# Altium footprint library CRCW080510K0FKEA.PcbLib: 3 footprints
Each footprint in its own frame and in the unit in brackets; x right, y up, seen from the top. Pads: shape width x height; smd on the part's side, far side on the other; paste and mask are expansions set on the pad; w line width, h text height; cw(c..) or ccw(c..) is an arc to the next point about the centre after c.
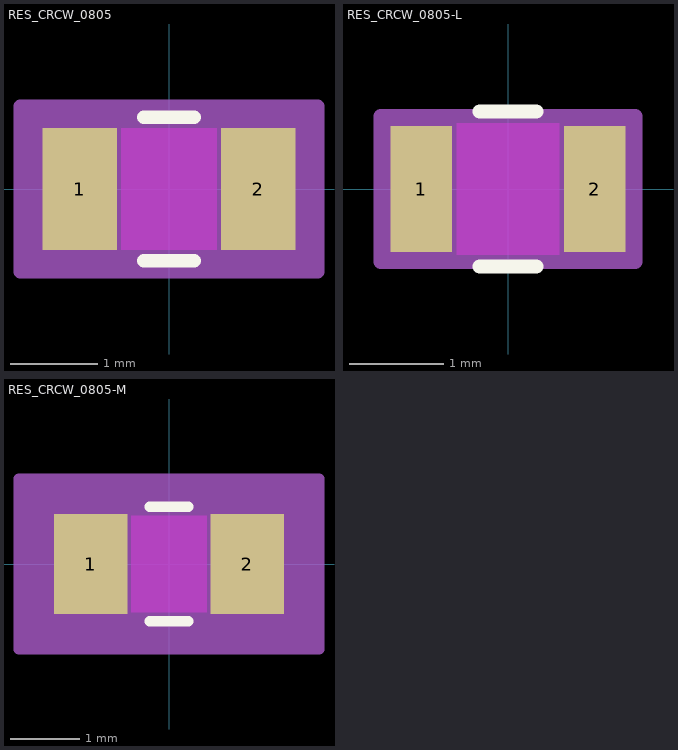
[diagram p0: the footprints below, top view; thin cyan lines are the x and y axes]

## RES_CRCW_0805 [mil]
pads (2):
  rect 33.78x55 smd paste+0 mask+0: 1(-40.39,0) 2(40.39,0)
Top Layer keep-out:
  region: -21.5,-25.5 -21.5,25.5 21.5,25.5 21.5,-25.5
Top Overlay:
  lines w6: -11.39,-32.5 11.39,-32.5 ; -11.39,32.5 11.39,32.5
  text ".Designator" at -137.5,-25 h50
Keep-Out Layer:
  region: -21.5,-27.5 -21.5,27.5 21.5,27.5 21.5,-27.5
Mechanical 13:
  lines w1: -43.5,-27.5 -43.5,27.5 ; -43.5,-27.5 -23.5,-27.5 -23.5,27.5 -43.5,27.5 ; -43.5,-27.5 43.5,-27.5 ; -43.5,-27.5 -43.5,27.5 ; -43.5,27.5 43.5,27.5 ; 43.5,-27.5 23.5,-27.5 23.5,27.5 43.5,27.5 ; 43.5,-27.5 43.5,27.5 ; 43.5,-27.5 43.5,27.5
  text ".Designator" at -137.5,-25 h50
Mechanical 15:
  region: 67.28,-37.5 -67.28,-37.5 -67.28,37.5 67.28,37.5
  lines w6: -67.28,-37.5 -67.28,37.5 67.28,37.5 67.28,-37.5 -67.28,-37.5
3D body "RES_CRCW_0805.step": height 20, standoff 0, extent -43.5,-27.48 43.5,27.48

## RES_CRCW_0805-L [mil]
pads (2):
  rect 25.91x53.03 smd paste+0 mask+0: 1(-36.45,0) 2(36.45,0)
Top Layer keep-out:
  region: -21.5,-25.5 -21.5,25.5 21.5,25.5 21.5,-25.5
Top Overlay:
  lines w6: -11.85,-32.5 11.85,-32.5 ; -11.85,32.5 11.85,32.5
  text ".Designator" at -137.5,-25 h50
Keep-Out Layer:
  region: -21.5,-27.5 -21.5,27.5 21.5,27.5 21.5,-27.5
Mechanical 13:
  lines w1: -43.5,-27.5 -43.5,27.5 ; -43.5,-27.5 -23.5,-27.5 -23.5,27.5 -43.5,27.5 ; -43.5,-27.5 43.5,-27.5 ; -43.5,-27.5 -43.5,27.5 ; -43.5,27.5 43.5,27.5 ; 43.5,-27.5 23.5,-27.5 23.5,27.5 43.5,27.5 ; 43.5,-27.5 43.5,27.5 ; 43.5,-27.5 43.5,27.5
  text ".Designator" at -137.5,-25 h50
Mechanical 15:
  region: 53.41,-30.52 -53.41,-30.52 -53.41,30.52 53.41,30.52
  lines w6: -53.41,-30.52 -53.41,30.52 53.41,30.52 53.41,-30.52 -53.41,-30.52
3D body "RES_CRCW_0805.step": height 20, standoff 0, extent -43.5,-27.48 43.5,27.48

## RES_CRCW_0805-M [mil]
pads (2):
  rect 41.65x56.97 smd paste+0 mask+0: 1(-44.33,0) 2(44.33,0)
Top Layer keep-out:
  region: -21.5,-25.5 -21.5,25.5 21.5,25.5 21.5,-25.5
Top Overlay:
  lines w6: -11.03,-32.5 11.03,-32.5 ; -11.03,32.5 11.03,32.5
  text ".Designator" at -137.5,-25 h50
Keep-Out Layer:
  region: -21.5,-27.5 -21.5,27.5 21.5,27.5 21.5,-27.5
Mechanical 13:
  lines w1: -43.5,-27.5 -43.5,27.5 ; -43.5,-27.5 -23.5,-27.5 -23.5,27.5 -43.5,27.5 ; -43.5,-27.5 43.5,-27.5 ; -43.5,-27.5 -43.5,27.5 ; -43.5,27.5 43.5,27.5 ; 43.5,-27.5 23.5,-27.5 23.5,27.5 43.5,27.5 ; 43.5,-27.5 43.5,27.5 ; 43.5,-27.5 43.5,27.5
  text ".Designator" at -137.5,-25 h50
Mechanical 15:
  region: 85.15,-48.48 -85.15,-48.48 -85.15,48.48 85.15,48.48
  lines w6: -85.15,-48.48 -85.15,48.48 85.15,48.48 85.15,-48.48 -85.15,-48.48
3D body "RES_CRCW_0805.step": height 20, standoff 0, extent -43.5,-27.48 43.5,27.48